# Altium footprint library Altium_Workshop_2020.PcbLib: 5 footprints
Each footprint in its own frame and in the unit in brackets; x right, y up, seen from the top. Pads: shape width x height; smd on the part's side, far side on the other; paste and mask are expansions set on the pad; w line width, h text height; cw(c..) or ccw(c..) is an arc to the next point about the centre after c.
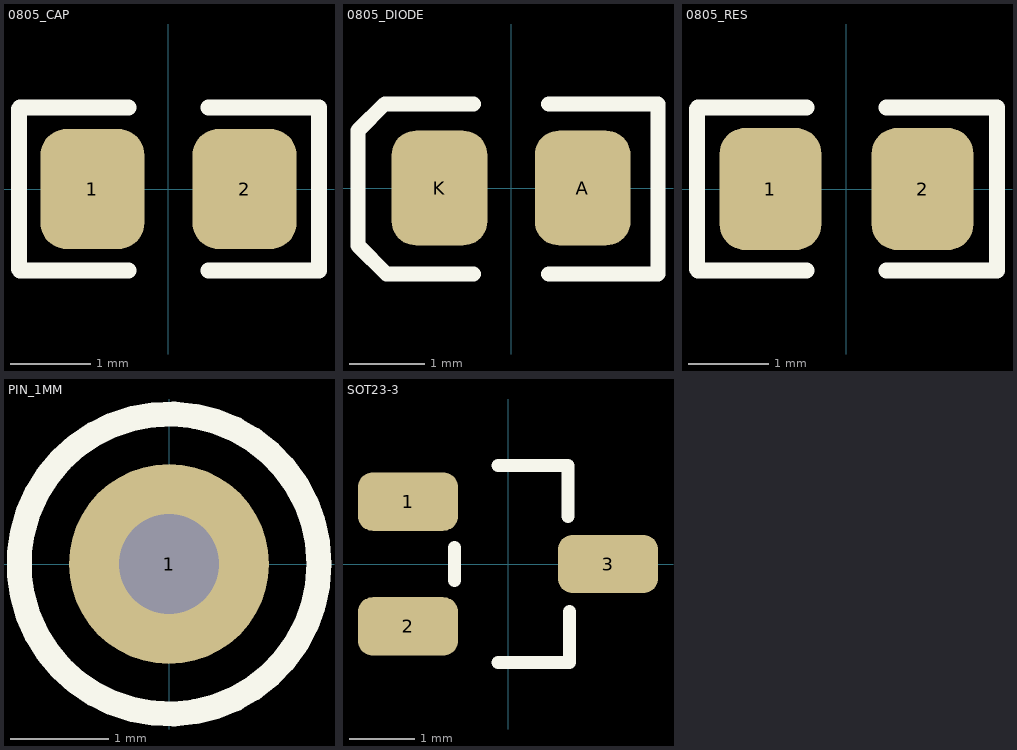
[diagram p0: the footprints below, top view; thin cyan lines are the x and y axes]

## 0805_CAP [mm] "0805 Capacitor"
height 1.016
pads (2):
  rrect50% 1.3x1.5 smd: 1(-0.95,0) 2(0.95,0)
Top Overlay:
  lines w0.2: -1.867,-1 -1.867,1 ; -1.854,-1.016 -0.5,-1.016 ; -1.854,1.016 -0.5,1.016 ; 0.5,-1.016 1.88,-1.016 ; 0.5,1.016 1.88,1.016 ; 1.88,-1 1.88,1
3D body "CAP0805.stp": height 0.78, standoff 0, extent -1,-0.625 1,0.625

## 0805_DIODE [mil] "0805 LED"
height 40
pads (2):
  rrect50% 50x60 smd: A(37.4,0) K(-37.4,0)
Top Overlay:
  lines w7.87: -19.68,-45 -65,-45 -80,-30 -80,30 -66,44 -19.68,44 ; 19.68,-45 76.77,-45 76.77,44 19.68,44
3D body "LED-0805-RED.STEP": height 35.43, standoff -0.39, extent -41.34,-26.57 41.33,26.58

## 0805_RES [mil] "0805 Resistor"
height 40
pads (2):
  rrect50% 50x60 smd: 1(-37.4,0) 2(37.4,0)
Top Overlay:
  lines w7.87: -73.5,-39.37 -73.5,39.37 ; -73,-40 -19.68,-40 ; -73,40 -19.68,40 ; 19.68,-40 74,-40 ; 19.68,40 74,40 ; 74,-39.37 74,39.37
3D body "RES0805.stp": height 19.68, standoff 0, extent -39.36,-24.8 39.38,24.42

## PIN_1MM [mil] "Single Pin"
height 400
pads (1):
  round 80 hole 40: 1(0,0)
Top Overlay:
  circle w10: c0,0 r60

## SOT23-3 [mil] "SOT23-3"
height 50
pads (3):
  rrect50% 60x35 smd: 1(-60,37.4) 2(-60,-37.4) 3(60,0)
Top Overlay:
  lines w7.87: -32,-10 -32,10 ; -6,-59.06 37,-59.06 37,-28.54 ; -6,59.06 36,59.06 36,28.54
3D body "User Library-SOT23-2.step": height 42.52, standoff 0, extent -51.97,-59.05 51.97,59.06